# EAGLE library part PINHD-2X4/SMD (library vikc-pinhead)
SMD Terminal Strip 2.54mm Pitch
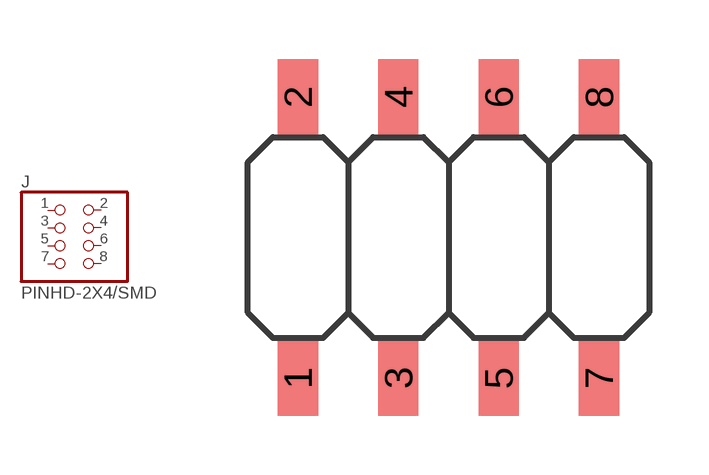
[diagram p45: symbol with the pads of 2X4/SMD; footprint 2X4/SMD]

Designator prefix J

## PINHD-2X4/SMD  [2X4/SMD]
1  1  pas
2  2  pas
3  3  pas
4  4  pas
5  5  pas
6  6  pas
7  7  pas
8  8  pas

## Footprint 2X4/SMD (pad centres in mm)
smd 1.016 x 1.905: 1 -3.81,-3.556; 2 -3.81,3.556; 3 -1.27,-3.556; 4 -1.27,3.556; 5 1.27,-3.556; 6 1.27,3.556; 7 3.81,-3.556; 8 3.81,3.556